# Altium footprint library Footprint.PcbLib: 139 footprints (part 2 of 9)
Each footprint in its own frame and in the unit in brackets; x right, y up, seen from the top. Pads: shape width x height; smd on the part's side, far side on the other; paste and mask are expansions set on the pad; w line width, h text height; cw(c..) or ccw(c..) is an arc to the next point about the centre after c.
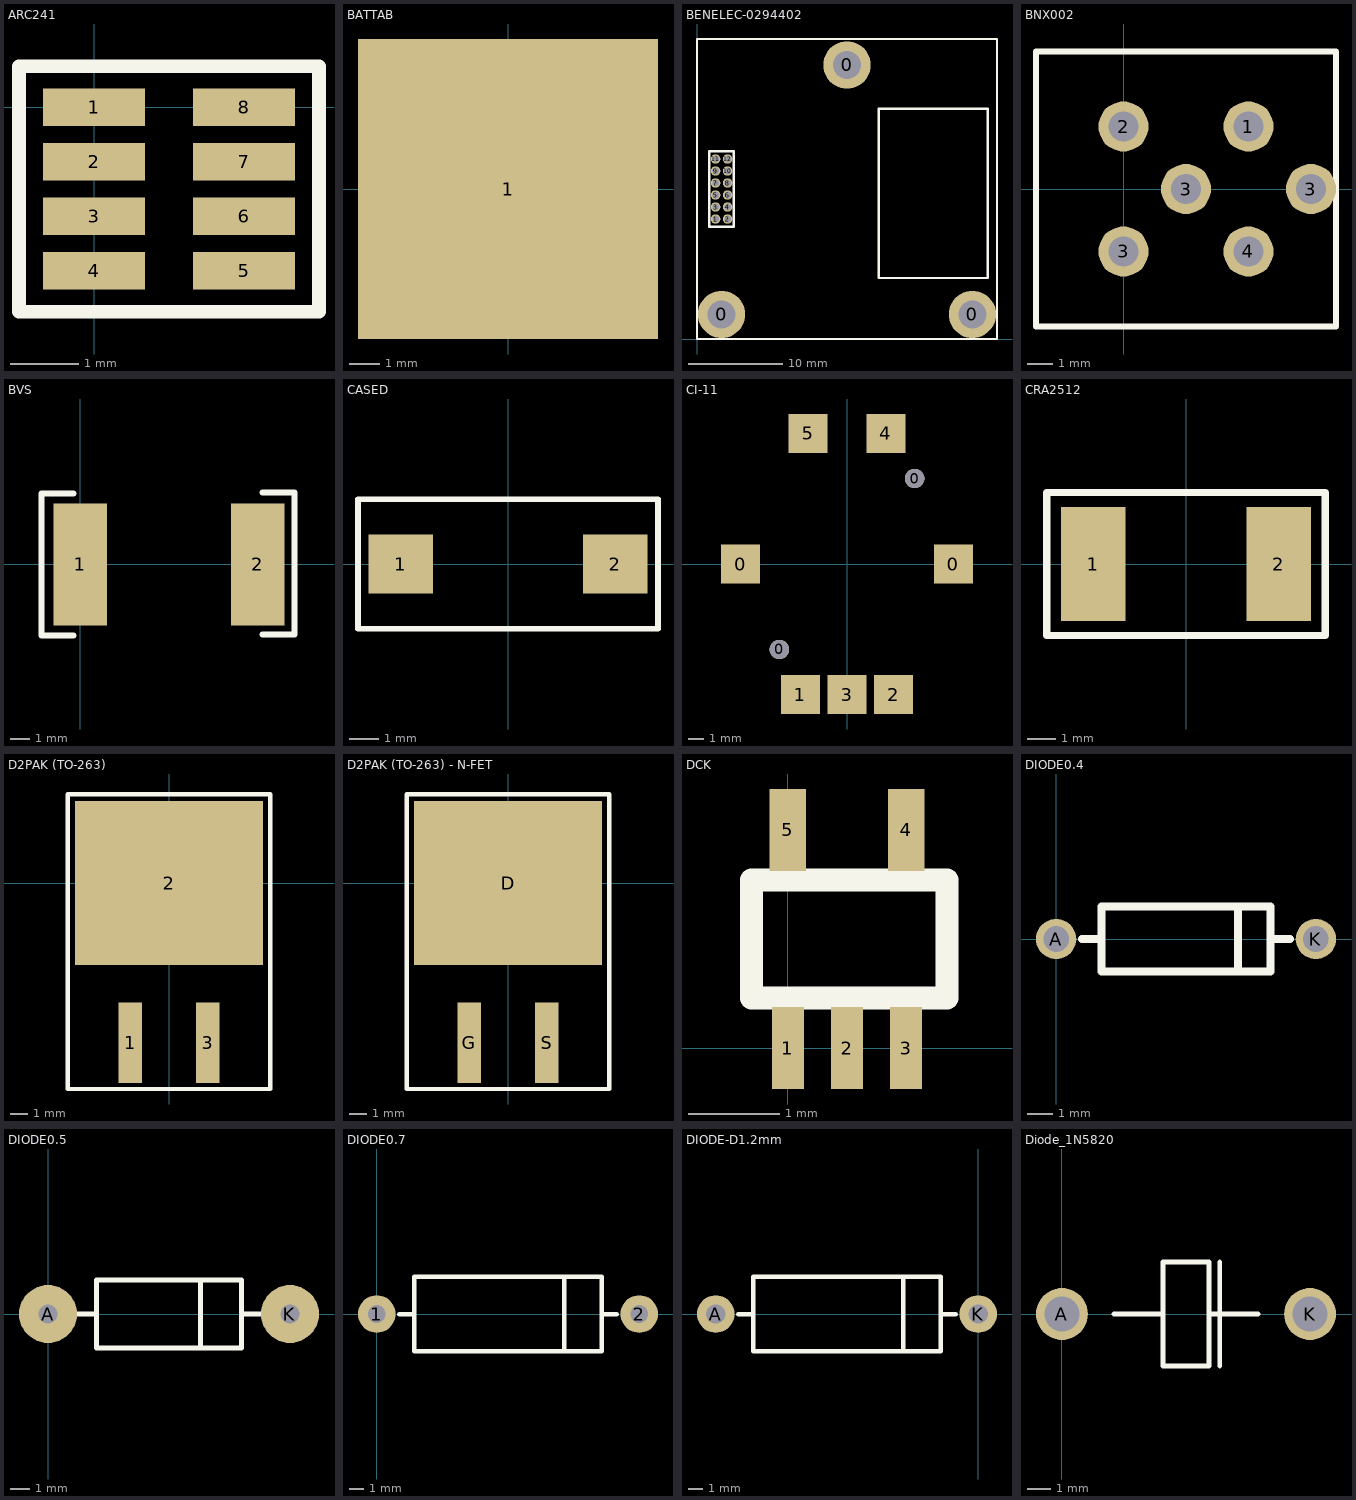
[diagram p1: the footprints below, top view; thin cyan lines are the x and y axes]

## ARC241 [mm] "4 resistor pack"
pads (8):
  rect 1.5x0.55 smd: 1(0,0) 2(0,-0.8) 3(0,-1.6) 4(0,-2.4) 5(2.2,-2.4) 6(2.2,-1.6) 7(2.2,-0.8) 8(2.2,0)
TopOverlay:
  lines w0.2: -1.1,-3 -1.1,0.6 3.3,0.6 3.3,-3 -1.1,-3

## BATTAB [mm]
pads (1):
  rect 10x10 smd: 1(0,0)

## BENELEC-0294402 [mm] "GPS Module"
height 9
pads (15):
  round 5 hole 3: 0(2.6,2.6) 0(15.875,29) 0(29.15,2.6)
  round 1 hole 0.7: 1(1.965,12.7) 2(3.235,12.7) 3(1.965,13.97) 4(3.235,13.97) 5(1.965,15.24) 6(3.235,15.24) 7(1.965,16.51) 8(3.235,16.51) 9(1.965,17.78) 10(3.235,17.78) 11(1.965,19.05) 12(3.235,19.05)
TopOverlay:
  lines w0.254: 1.3,11.875 1.3,19.875 ; 1.325,11.875 3.87,11.875 3.87,19.75 ; 1.325,19.875 3.87,19.875 ; 0,0 31.75,0 31.75,31.75 0,31.75 0,0 ; 19.25,6.46 30.75,6.46 30.75,24.36 19.25,24.36 19.25,6.46

## BNX002 [mm]
pads (6):
  round 2 hole 1.2: 1(5,2.5) 2(0,2.5) 3(0,-2.5) 3(2.5,0) 3(7.5,0) 4(5,-2.5)
TopOverlay:
  lines w0.254: -3.5,-5.5 -3.5,5.5 8.5,5.5 8.5,-5.5 -3.5,-5.5

## BVS [mm]
pads (2):
  rect 2.7x6.2 smd: 1(0,0) 2(9,0)
TopOverlay:
  lines w0.305: -0.35,-3.6 -1.95,-3.6 -1.95,3.6 -0.35,3.6 ; 9.25,-3.55 10.85,-3.55 10.85,3.65 9.25,3.65

## CASED [mm]
pads (2):
  rect 2.2x2 smd: 1(-3.65,0) 2(3.65,0)
TopOverlay:
  lines w0.2: -5.1,-2.2 5.1,-2.2 5.1,2.2 -5.1,2.2 -5.1,0 -5.1,-2.2

## CI-11 [mm]
pads (9):
  rect 2.5x2.5 smd: 0(-6.85,0) 0(6.85,0) 1(-3,-8.4) 2(3,-8.4) 3(0,-8.4) 4(2.5,8.4) 5(-2.5,8.4)
  round 1.25 hole 1.25: 0(-4.35,-5.5) 0(4.35,5.5)

## CRA2512 [mil]
pads (2):
  rect 90x160 smd: 1(-130,0) 2(130,0)
TopOverlay:
  lines w10: -195,-100 195,-100 195,100 -195,100 -195,0 -195,-100

## D2PAK (TO-263) [mm]
pads (3):
  rect 1.35x4.6 smd: 1(-2.213,-9.15) 3(2.213,-9.15)
  rect 10.8x9.4 smd: 2(0,0)
TopOverlay:
  lines w0.254: -5.8,-11.8 -5.8,5.1 5.8,5.1 5.8,-11.8 -5.8,-11.8

## D2PAK (TO-263) - N-FET [mm]
pads (3):
  rect 10.8x9.4 smd: D(0,0)
  rect 1.35x4.6 smd: G(-2.213,-9.15) S(2.213,-9.15)
TopOverlay:
  lines w0.254: -5.8,-11.8 -5.8,5.1 5.8,5.1 5.8,-11.8 -5.8,-11.8

## DCK [mm]
height 1.1
pads (5):
  rect 0.35x0.9 smd: 1(0,0) 2(0.65,0) 3(1.3,0)
  rect 0.4x0.9 smd: 4(1.3,2.4) 5(0,2.4)
TopOverlay:
  lines w0.254: -0.4,0.55 -0.4,1.85 1.75,1.85 1.75,0.55 -0.4,0.55

## DIODE0.4 [mil]
pads (2):
  round 62 hole 39.37: A(0,0) K(400,0)
TopOverlay:
  lines w12: 40,0 70,0 ; 280,-50 280,50 ; 330,0 360,0 ; 70,-50 70,50 330,50 330,-50 70,-50

## DIODE0.5 [mil]
pads (2):
  round 120 hole 40: A(0,0) K(500,0)
TopOverlay:
  lines w10: 35,0 100,0 ; 315,-70 315,70 ; 400,0 465,0 ; 100,0 100,-70 400,-70 400,70 100,70 100,0

## DIODE0.7 [mm]
pads (2):
  round 2.54 hole 1.2: 1(0,0) 2(17.78,0)
TopOverlay:
  lines w0.305: 1.524,0 2.54,0 ; 12.7,-2.54 12.7,2.54 ; 15.24,0 16.256,0 ; 2.54,-2.54 2.54,2.54 15.24,2.54 15.24,-2.54 2.54,-2.54

## DIODE-D1.2mm [mm]
pads (2):
  round 2.54 hole 1.3: A(-17.78,0) K(0,0)
TopOverlay:
  lines w0.305: -16.256,0 -15.24,0 ; -5.08,-2.54 -5.08,2.54 ; -2.54,0 -1.524,0 ; -15.24,-2.54 -2.54,-2.54 -2.54,2.54 -15.24,2.54 -15.24,-2.54

## Diode_1N5820 [mm]
pads (2):
  round 2.2 hole 1.5: A(0,0) K(10.5,0)
TopOverlay:
  lines w0.2: 2.2,0 4.275,0 ; 6.225,0 8.3,0 ; 6.675,-2.2 6.675,2.2 ; 4.275,0 4.275,-2.2 6.225,-2.2 6.225,2.2 4.275,2.2 4.275,0